# EAGLE library part BNO055 (library libreria valerio)
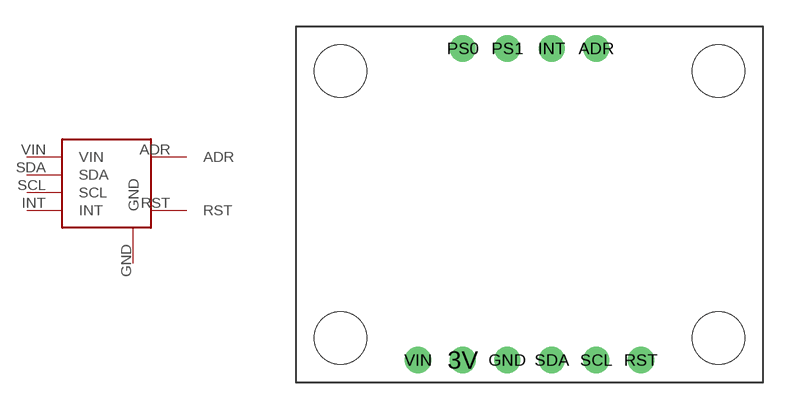
[diagram p0: symbol with the pads of BNO055; footprint BNO055]

Designator prefix -

## BNO055  [BNO055]
ADR  ADR
GND  GND
INT  INT
RST  RST
SCL  SCL
SDA  SDA
VIN  VIN

## Footprint BNO055 (pad centres in mm)
drill 1: 3V 17.145,6.35; ADR 24.765,24.13; GND 19.685,6.35; INT 22.225,24.13; PS0 17.145,24.13; PS1 19.685,24.13; RST 27.305,6.35; SCL 24.765,6.35; SDA 22.225,6.35; VIN 14.605,6.35
hole 3 at 10.16,22.86
hole 3 at 31.75,22.86
hole 3 at 10.16,7.62
hole 3 at 31.75,7.62